# EAGLE library part 50281-025 (library con-aces-50281-series)
ACES CONNECTORS 50281 SERIES ACES Connecors 50281
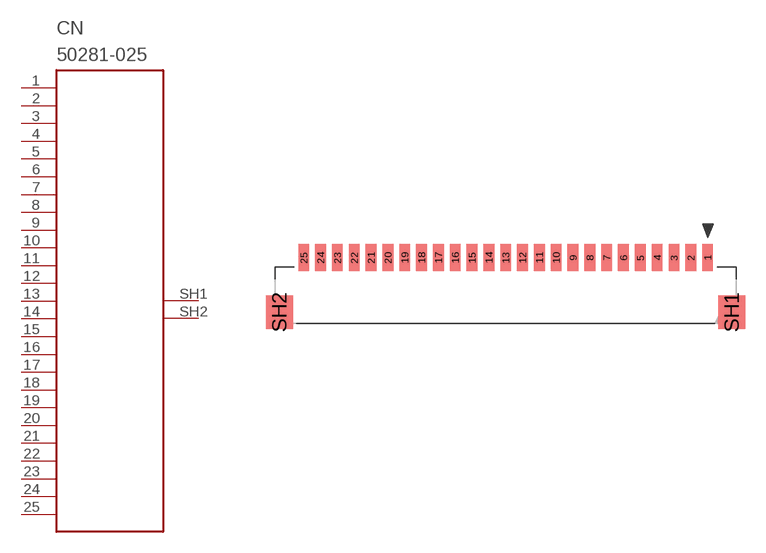
[diagram p16: symbol with the pads of 50281-025; footprint 50281-025]

Designator prefix CN

## 50281-025  [50281-025]
1  1
2  2
3  3
4  4
5  5
6  6
7  7
8  8
9  9
10  10
11  11
12  12
13  13
14  14
15  15
16  16
17  17
18  18
19  19
20  20
21  21
22  22
23  23
24  24
25  25
SH1  SH1
SH2  SH2

## Footprint 50281-025 (pad centres in mm)
smd 0.8 x 2: 1 15,1.9; 2 13.75,1.9; 3 12.5,1.9; 4 11.25,1.9; 5 10,1.9; 6 8.75,1.9; 7 7.5,1.9; 8 6.25,1.9; 9 5,1.9; 10 3.75,1.9; 11 2.5,1.9; 12 1.25,1.9; 13 0,1.9; 14 -1.25,1.9; 15 -2.5,1.9; 16 -3.75,1.9; 17 -5,1.9; 18 -6.25,1.9; 19 -7.5,1.9; 20 -8.75,1.9; 21 -10,1.9; 22 -11.25,1.9; 23 -12.5,1.9; 24 -13.75,1.9; 25 -15,1.9
smd 2 x 2.5: SH1 16.8,-2.15; SH2 -16.8,-2.15